# Altium schematic symbol library SDC-LE-01.SCHLIB: 1 symbol
Pins are listed as number, name and electrical type; pins without a type are passive.

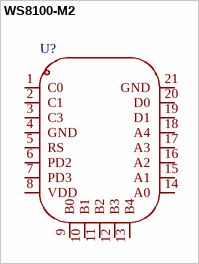
[diagram p0: symbol WS8100-M2]

## WS8100-M2
designator U?  (value not drawn)
Add into BOM: yes; Symbol: WS8100-M2; Device: WS8100-M2; Convert to PCB: yes
footprint ws8100-1.27
pins: 1 C0, 2 C1, 3 C3, 4 GND, 5 RS, 6 PD2, 7 PD3, 8 VDD, 9 B0, 10 B1, 11 B2, 12 B3, 13 B4, 14 A0, 15 A1, 16 A2, 17 A3, 18 A4, 19 D1, 20 D0, 21 GND